# Altium schematic symbol library kmilo17pet-LT_PMIC_LT.SchLib: 2252 symbols (part 106 of 124)
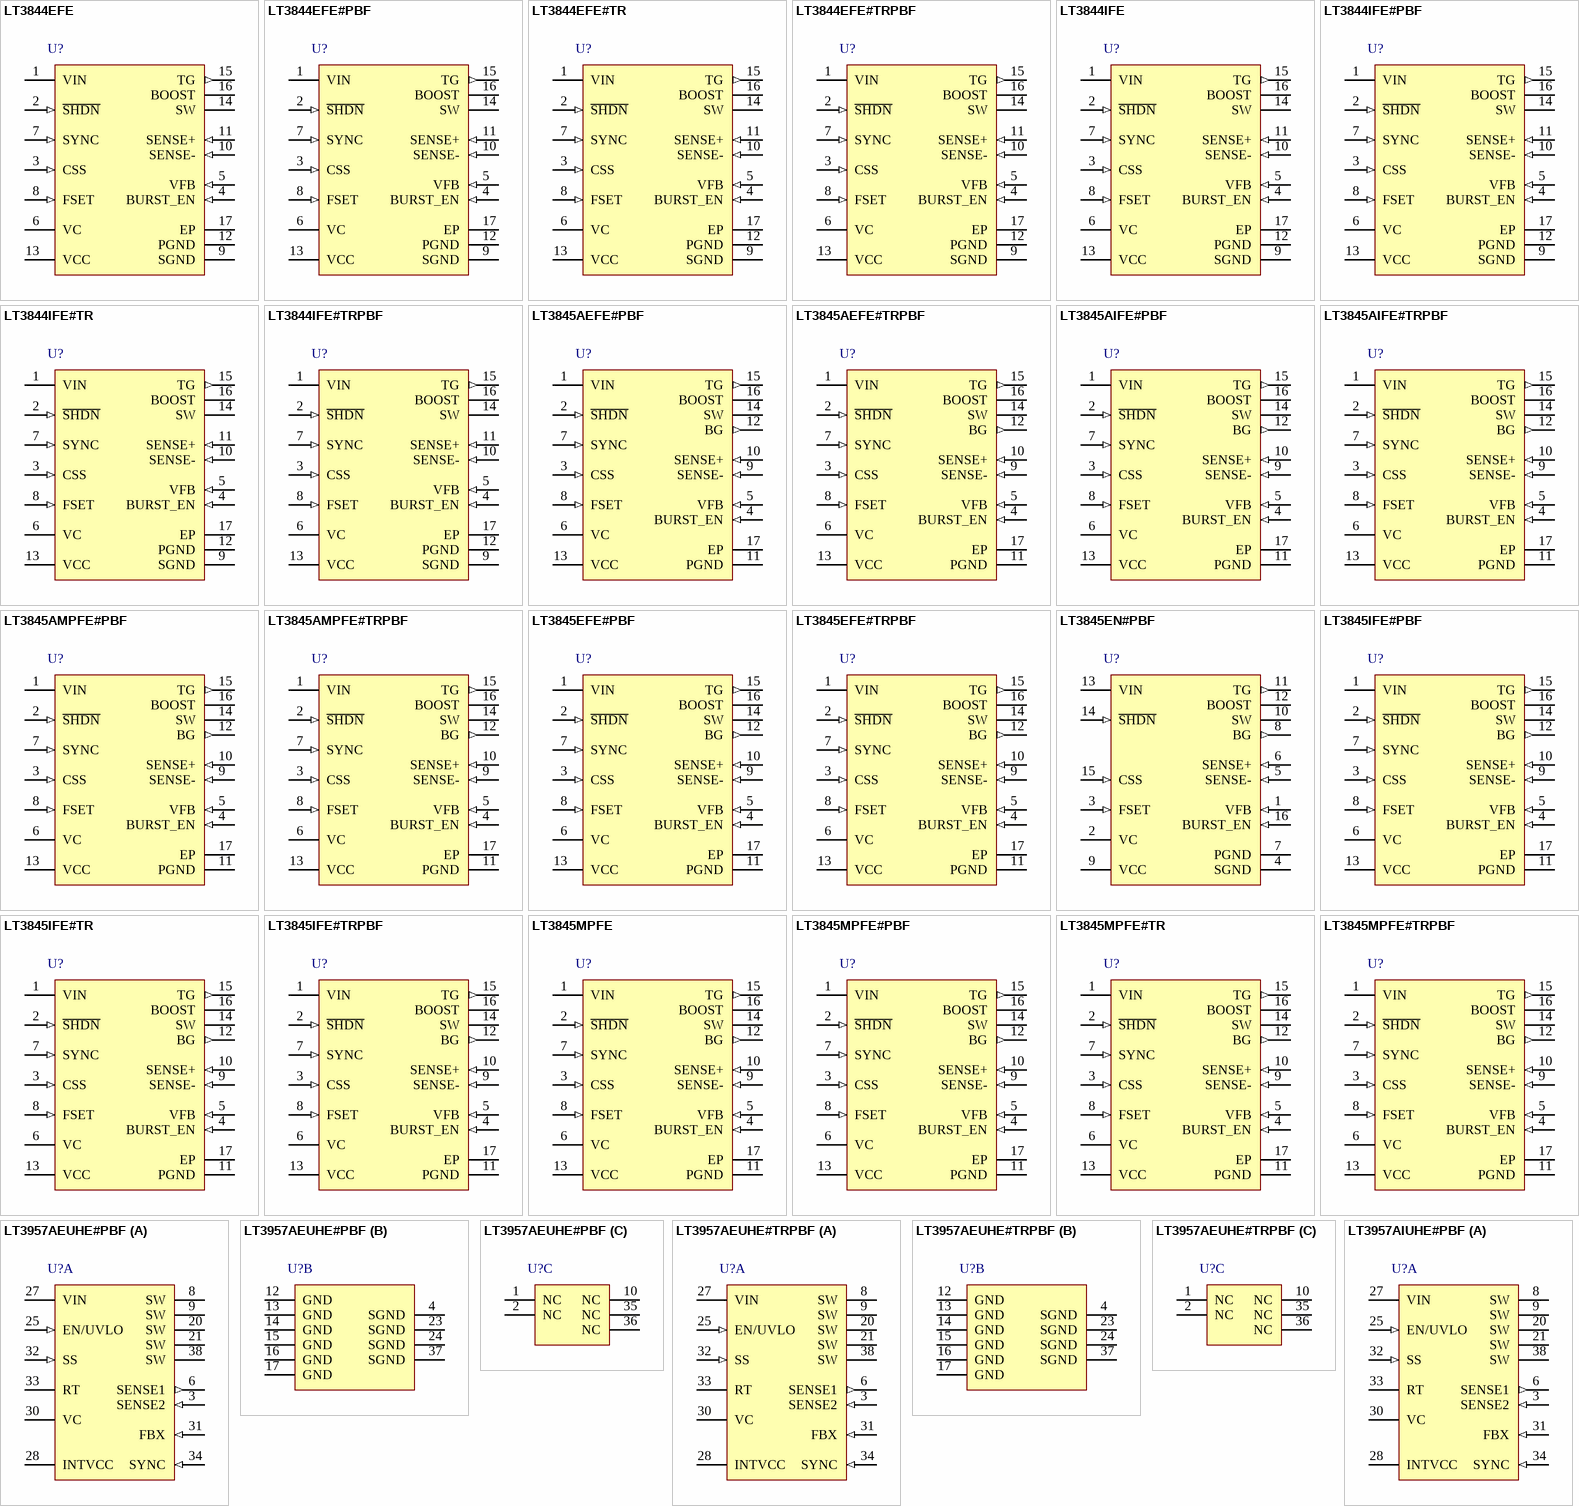
[diagram p176: symbols LT3844EFE to LT3957AIUHE#PBF]

## LT3845AMPFE#TRPBF
designator U?
High Voltage Synchronous Current Mode Step-Down Controller with Adjustable Operating Frequency, 16-pin SOP (FE-16-EPV-BC), -55 to 125 degC, Pb-Free, Tape and Reel; Manufacturer: Linear Technology; PartNumber: LT3845AMPFE#TRPBF; Number of Outputs: 1; PackageReference: FE-16; PackageDescription: 16-Pin Plastic TSSOP, Body 5 x 4.4 mm, Pitch 0.65 mm; Supplier 1: Digi-Key; Supplier Part Number 1: LT3845AMPFE#TRPBF-ND; RoHS: TRUE
footprint LT-FE-16-EPV-BC_N (SOP, 16-Leads, Body 5.1x4.5mm, Pitch 0.65mm, Thermal Pad 3.58x2.94mm, IPC Medium Density)
footprint LT-FE-16-EPV-BC_L (SOP, 16-Leads, Body 5.1x4.5mm, Pitch 0.65mm, Thermal Pad 3.58x2.94mm, IPC High Density)
footprint LT-FE-16-EPV-BC_M (SOP, 16-Leads, Body 5.1x4.5mm, Pitch 0.65mm, Thermal Pad 3.58x2.94mm, IPC Low Density)
pins: 1 VIN (power) "The VIN pin is the main supply pin and should be decoupled to SGND with a low ESR capacitor (at least 0.1uF) located close to the pin.", 2 ~{SHDN} (in) "The S\H\D\N\ pin has a precision IC enable threshold of 1.35V (rising) with 120mV of hysteresis. It is used to implement an undervoltage lockout (UVLO) circuit. See Application Information section for implementing a UVLO (See Datasheet)", 3 CSS (in) "The soft-start pin is used to program the supply softstart function. Use the following formula to calculate CSS for a given output voltage slew rate: CSS = 2uA(tSS/1.231V) The pin should be left unconnected when not using (See Datasheet)", 4 BURST_EN (in) "Burst Mode Operation Enable Pin. This pin also controls reverse-current inhibit mode of operation. When the pin voltage is below 0.5V, Burst Mode operation and reverse-current inhibit functions are enabled. When the pin (See Datasheet)", 5 VFB (in) "The output voltage feedback pin, VFB, is externally connected to the supply output voltage via a resistive divider. The VFB pin is internally connected to the inverting input of the error amplifier. In regulation, VFB is 1.(See Datasheet)", 6 VC "The VC pin is the output of the error amplifier whose voltage corresponds to the maximum (peak) switch current per oscillator cycle. The error amplifier is typically configured as an integrator by connecting an RC network (See Datasheet)", 7 SYNC (in) "The Sync pin provides an external clock input for synchronization of the internal oscillator. RSET is set such that the internal oscillator frequency is 10% to 25% below the external clock frequency. If unused the Sync pin (See Datasheet)", 8 FSET (in) "The FSET pin programs the oscillator frequency with an external resistor, RSET. The resistor is required even when supplying external sync clock signal. See the Applications Information section for resistor value selection (See Datasheet)", 9 SENSE- (in) "The SENSE- pin is the negative input for the current sense amplifier and is connected to the VOUT side of the sense resistor for step-down applications.", 10 SENSE+ (in) "The SENSE+ pin is the positive input for the current sense amplifier and is connected to the inductor side of the sense resistor for step-down applications.", 11 PGND (power) "The PGND pin is the high-current ground reference for internal low side switch driver and the VCC regulator circuit. Connect the pin directly to the negative terminal of the VCC decoupling capacitor. See the Application (See Datasheet)", 12 BG (out) "The BG pin is the gate drive for the bottom N-channel MOSFET. Since very fast high currents are driven from this pin, connect it to the gate of the power MOSFET with a short and wide, typically 0.02" width, PCB trace to (See Datasheet)", 13 VCC (power) "The VCC pin is the internal bias supply decoupling node. Use a low ESR, 1uF or greater ceramic capacitor to decouple this node to PGND. Most internal IC functions are powered from this bias supply. An external diode (See Datasheet)", 14 SW "Reference for VBOOST Supply and High Current Return for Bootstrapped Switch.", 15 TG (out) "The TG pin is the bootstrapped gate drive for the top N-Channel MOSFET. Since very fast high currents are driven from this pin, connect it to the gate of the power MOSFET with a short and wide, typically 0.02'' width, PC(See Datasheet)", 16 BOOST "The BOOST pin is the supply for the bootstrapped gate drive and is externally connected to a low ESR ceramic boost capacitor referenced to SW pin. The recommended value of the BOOST capacitor, CBOOST, is at least 50 times (See Datasheet)", 17 EP (power) "The exposed leadframe is internally connected to the SGND pin. Solder the exposed pad to the PCB ground for electrical contact and optimal thermal performance."

## LT3845EFE#PBF
designator U?
High Voltage Synchronous Current Mode Step-Down Controller with Adjustable Operating Frequency, 16-pin SOP (FE-16-EPV-BC), -40 to 125 degC, Pb-Free; Manufacturer: Linear Technology; PartNumber: LT3845EFE#PBF; Number of Outputs: 1; PackageReference: FE-16; PackageDescription: 16-Pin Plastic TSSOP, Body 5 x 4.4 mm, Pitch 0.65 mm; Supplier 1: Digi-Key; Supplier Part Number 1: LT3845EFE#PBF-ND; RoHS: TRUE
footprint LT-FE-16-EPV-BC_N (SOP, 16-Leads, Body 5.1x4.5mm, Pitch 0.65mm, Thermal Pad 3.58x2.94mm, IPC Medium Density)
footprint LT-FE-16-EPV-BC_L (SOP, 16-Leads, Body 5.1x4.5mm, Pitch 0.65mm, Thermal Pad 3.58x2.94mm, IPC High Density)
footprint LT-FE-16-EPV-BC_M (SOP, 16-Leads, Body 5.1x4.5mm, Pitch 0.65mm, Thermal Pad 3.58x2.94mm, IPC Low Density)
pins: 1 VIN (power) "The VIN pin is the main supply pin and should be decoupled to SGND with a low ESR capacitor (at least 0.1uF) located close to the pin.", 2 ~{SHDN} (in) "The S\H\D\N\ pin has a precision IC enable threshold of 1.35V (rising) with 120mV of hysteresis. It is used to implement an undervoltage lockout (UVLO) circuit. See Application Information section for implementing a UVLO (See Datasheet)", 3 CSS (in) "The soft-start pin is used to program the supply softstart function. Use the following formula to calculate CSS for a given output voltage slew rate: CSS = 2uA(tSS/1.231V) The pin should be left unconnected when not using (See Datasheet)", 4 BURST_EN (in) "Burst Mode Operation Enable Pin. This pin also controls reverse-current inhibit mode of operation. When the pin voltage is below 0.5V, Burst Mode operation and reverse-current inhibit functions are enabled. When the pin (See Datasheet)", 5 VFB (in) "The output voltage feedback pin, VFB, is externally connected to the supply output voltage via a resistive divider. The VFB pin is internally connected to the inverting input of the error amplifier. In regulation, VFB is 1.(See Datasheet)", 6 VC "The VC pin is the output of the error amplifier whose voltage corresponds to the maximum (peak) switch current per oscillator cycle. The error amplifier is typically configured as an integrator by connecting an RC network (See Datasheet)", 7 SYNC (in) "The Sync pin provides an external clock input for synchronization of the internal oscillator. RSET is set such that the internal oscillator frequency is 10% to 25% below the external clock frequency. If unused the Sync pin (See Datasheet)", 8 FSET (in) "The FSET pin programs the oscillator frequency with an external resistor, RSET. The resistor is required even when supplying external sync clock signal. See the Applications Information section for resistor value selection (See Datasheet)", 9 SENSE- (in) "The SENSE- pin is the negative input for the current sense amplifier and is connected to the VOUT side of the sense resistor for step-down applications.", 10 SENSE+ (in) "The SENSE+ pin is the positive input for the current sense amplifier and is connected to the inductor side of the sense resistor for step-down applications.", 11 PGND (power) "The PGND pin is the high-current ground reference for internal low side switch driver and the VCC regulator circuit. Connect the pin directly to the negative terminal of the VCC decoupling capacitor. See the Application (See Datasheet)", 12 BG (out) "The BG pin is the gate drive for the bottom N-channel MOSFET. Since very fast high currents are driven from this pin, connect it to the gate of the power MOSFET with a short and wide, typically 0.02" width, PCB trace to (See Datasheet)", 13 VCC (power) "The VCC pin is the internal bias supply decoupling node. Use a low ESR, 1uF or greater ceramic capacitor to decouple this node to PGND. Most internal IC functions are powered from this bias supply. An external diode (See Datasheet)", 14 SW "Reference for VBOOST Supply and High Current Return for Bootstrapped Switch.", 15 TG (out) "The TG pin is the bootstrapped gate drive for the top N-Channel MOSFET. Since very fast high currents are driven from this pin, connect it to the gate of the power MOSFET with a short and wide, typically 0.02'' width, PC(See Datasheet)", 16 BOOST "The BOOST pin is the supply for the bootstrapped gate drive and is externally connected to a low ESR ceramic boost capacitor referenced to SW pin. The recommended value of the BOOST capacitor, CBOOST, is at least 50 times (See Datasheet)", 17 EP (power) "The exposed leadframe is internally connected to the SGND pin. Solder the exposed pad to the PCB ground for electrical contact and optimal thermal performance."

## LT3845EFE#TRPBF
designator U?
High Voltage Synchronous Current Mode Step-Down Controller with Adjustable Operating Frequency, 16-pin SOP (FE-16-EPV-BC), -40 to 125 degC, Pb-Free, Tape and Reel; Manufacturer: Linear Technology; PartNumber: LT3845EFE#TRPBF; Number of Outputs: 1; PackageReference: FE-16; PackageDescription: 16-Pin Plastic TSSOP, Body 5 x 4.4 mm, Pitch 0.65 mm; Supplier 1: Digi-Key; Supplier Part Number 1: LT3845EFE#TRPBF-ND; RoHS: TRUE
footprint LT-FE-16-EPV-BC_N (SOP, 16-Leads, Body 5.1x4.5mm, Pitch 0.65mm, Thermal Pad 3.58x2.94mm, IPC Medium Density)
footprint LT-FE-16-EPV-BC_L (SOP, 16-Leads, Body 5.1x4.5mm, Pitch 0.65mm, Thermal Pad 3.58x2.94mm, IPC High Density)
footprint LT-FE-16-EPV-BC_M (SOP, 16-Leads, Body 5.1x4.5mm, Pitch 0.65mm, Thermal Pad 3.58x2.94mm, IPC Low Density)
pins: 1 VIN (power) "The VIN pin is the main supply pin and should be decoupled to SGND with a low ESR capacitor (at least 0.1uF) located close to the pin.", 2 ~{SHDN} (in) "The S\H\D\N\ pin has a precision IC enable threshold of 1.35V (rising) with 120mV of hysteresis. It is used to implement an undervoltage lockout (UVLO) circuit. See Application Information section for implementing a UVLO (See Datasheet)", 3 CSS (in) "The soft-start pin is used to program the supply softstart function. Use the following formula to calculate CSS for a given output voltage slew rate: CSS = 2uA(tSS/1.231V) The pin should be left unconnected when not using (See Datasheet)", 4 BURST_EN (in) "Burst Mode Operation Enable Pin. This pin also controls reverse-current inhibit mode of operation. When the pin voltage is below 0.5V, Burst Mode operation and reverse-current inhibit functions are enabled. When the pin (See Datasheet)", 5 VFB (in) "The output voltage feedback pin, VFB, is externally connected to the supply output voltage via a resistive divider. The VFB pin is internally connected to the inverting input of the error amplifier. In regulation, VFB is 1.(See Datasheet)", 6 VC "The VC pin is the output of the error amplifier whose voltage corresponds to the maximum (peak) switch current per oscillator cycle. The error amplifier is typically configured as an integrator by connecting an RC network (See Datasheet)", 7 SYNC (in) "The Sync pin provides an external clock input for synchronization of the internal oscillator. RSET is set such that the internal oscillator frequency is 10% to 25% below the external clock frequency. If unused the Sync pin (See Datasheet)", 8 FSET (in) "The FSET pin programs the oscillator frequency with an external resistor, RSET. The resistor is required even when supplying external sync clock signal. See the Applications Information section for resistor value selection (See Datasheet)", 9 SENSE- (in) "The SENSE- pin is the negative input for the current sense amplifier and is connected to the VOUT side of the sense resistor for step-down applications.", 10 SENSE+ (in) "The SENSE+ pin is the positive input for the current sense amplifier and is connected to the inductor side of the sense resistor for step-down applications.", 11 PGND (power) "The PGND pin is the high-current ground reference for internal low side switch driver and the VCC regulator circuit. Connect the pin directly to the negative terminal of the VCC decoupling capacitor. See the Application (See Datasheet)", 12 BG (out) "The BG pin is the gate drive for the bottom N-channel MOSFET. Since very fast high currents are driven from this pin, connect it to the gate of the power MOSFET with a short and wide, typically 0.02" width, PCB trace to (See Datasheet)", 13 VCC (power) "The VCC pin is the internal bias supply decoupling node. Use a low ESR, 1uF or greater ceramic capacitor to decouple this node to PGND. Most internal IC functions are powered from this bias supply. An external diode (See Datasheet)", 14 SW "Reference for VBOOST Supply and High Current Return for Bootstrapped Switch.", 15 TG (out) "The TG pin is the bootstrapped gate drive for the top N-Channel MOSFET. Since very fast high currents are driven from this pin, connect it to the gate of the power MOSFET with a short and wide, typically 0.02'' width, PC(See Datasheet)", 16 BOOST "The BOOST pin is the supply for the bootstrapped gate drive and is externally connected to a low ESR ceramic boost capacitor referenced to SW pin. The recommended value of the BOOST capacitor, CBOOST, is at least 50 times (See Datasheet)", 17 EP (power) "The exposed leadframe is internally connected to the SGND pin. Solder the exposed pad to the PCB ground for electrical contact and optimal thermal performance."

## LT3845EN#PBF
designator U?
High Voltage Synchronous Current Mode Step-Down Controller with Adjustable Operating Frequency, 16-pin DIP (N-16), -40 to 125 degC, Pb-Free; Manufacturer: Linear Technology; PartNumber: LT3845EN#PBF; Number of Outputs: 1; PackageReference: N-16; PackageDescription: 16-Pin PDIP, Body 19.56 x 6.48 mm, Pitch 2.54 mm; Supplier 1: Digi-Key; Supplier Part Number 1: LT3845EN#PBF-ND; RoHS: TRUE
footprint LT-N-16 (DIP, 16-Leads, Body 19.56x6.48mm, Pitch 2.54mm)
pins: 1 VFB (in) "The output voltage feedback pin, VFB, is externally connected to the supply output voltage via a resistive divider. The VFB pin is internally connected to the inverting input of the error amplifier. In regulation, VFB is 1.(See Datasheet)", 2 VC "The VC pin is the output of the error amplifier whose voltage corresponds to the maximum (peak) switch current per oscillator cycle. The error amplifier is typically configured as an integrator by connecting an RC network (See Datasheet)", 3 FSET (in) "The FSET pin programs the oscillator frequency with an external resistor, RSET. The resistor is required even when supplying external sync clock signal. See the Applications Information section for resistor value selection (See Datasheet)", 4 SGND (power) "The SGND pin is the low noise ground reference. It should be connected to the -VOUT side of the output capacitors. Careful layout of the PCB is necessary to keep high currents away from this SGND connection. See the (See Datasheet)", 5 SENSE- (in) "The SENSE- pin is the negative input for the current sense amplifier and is connected to the VOUT side of the sense resistor for step-down applications. The sensed inductor current limit is set to +/-100mV across the SENSE (See Datasheet)", 6 SENSE+ (in) "The SENSE+ pin is the positive input for the current sense amplifier and is connected to the inductor side of the sense resistor for step-down applications. The sensed inductor current limit is set to +/-100mV across the (See Datasheet)", 7 PGND (power) "The PGND pin is the high-current ground reference for internal low side switch driver and the VCC regulator circuit. Connect the pin directly to the negative terminal of the VCC decoupling capacitor. See the Application (See Datasheet)", 8 BG (out) "The BG pin is the gate drive for the bottom N-channel MOSFET. Since very fast high currents are driven from this pin, connect it to the gate of the power MOSFET with a short and wide, typically 0.02" width, PCB trace to (See Datasheet)", 9 VCC (power) "The VCC pin is the internal bias supply decoupling node. Use a low ESR, 1uF or greater ceramic capacitor to decouple this node to PGND. Most internal IC functions are powered from this bias supply. An external diode (See Datasheet)", 10 SW "Reference for VBOOST Supply and High Current Return for Bootstrapped Switch.", 11 TG (out) "The TG pin is the bootstrapped gate drive for the top N-Channel MOSFET. Since very fast high currents are driven from this pin, connect it to the gate of the power MOSFET with a short and wide, typically 0.02¡± width, PC(See Datasheet)", 12 BOOST "The BOOST pin is the supply for the bootstrapped gate drive and is externally connected to a low ESR ceramic boost capacitor referenced to SW pin. The recommended value of the BOOST capacitor, CBOOST, is at least 50 times (See Datasheet)", 13 VIN (power) "The VIN pin is the main supply pin and should be decoupled to SGND with a low ESR capacitor (at least 0.1uF) located close to the pin.", 14 ~{SHDN} (in) "The S\H\D\N\ pin has a precision IC enable threshold of 1.35V (rising) with 120mV of hysteresis. It is used to implement an undervoltage lockout (UVLO) circuit. See Application Information section for implementing a UVLO (See Datasheet)", 15 CSS (in) "The soft-start pin is used to program the supply softstart function. Use the following formula to calculate CSS for a given output voltage slew rate: CSS = 2uA(tSS/1.231V) The pin should be left unconnected when not using (See Datasheet)", 16 BURST_EN (in) "Burst Mode Operation Enable Pin. This pin also controls reverse current inhibit mode of operation. When the pin voltage is below 0.5V, Burst Mode operation and reverse-current inhibit functions are enabled. When the pin (See Datasheet)"

## LT3845IFE#PBF
designator U?
High Voltage Synchronous Current Mode Step-Down Controller with Adjustable Operating Frequency, 16-pin SOP (FE-16-EPV-BC), -40 to 125 degC, Pb-Free; Manufacturer: Linear Technology; PartNumber: LT3845IFE#PBF; Number of Outputs: 1; PackageReference: FE-16; PackageDescription: 16-Pin Plastic TSSOP, Body 5 x 4.4 mm, Pitch 0.65 mm; Supplier 1: Digi-Key; Supplier Part Number 1: LT3845IFE#PBF-ND; RoHS: TRUE
footprint LT-FE-16-EPV-BC_N (SOP, 16-Leads, Body 5.1x4.5mm, Pitch 0.65mm, Thermal Pad 3.58x2.94mm, IPC Medium Density)
footprint LT-FE-16-EPV-BC_L (SOP, 16-Leads, Body 5.1x4.5mm, Pitch 0.65mm, Thermal Pad 3.58x2.94mm, IPC High Density)
footprint LT-FE-16-EPV-BC_M (SOP, 16-Leads, Body 5.1x4.5mm, Pitch 0.65mm, Thermal Pad 3.58x2.94mm, IPC Low Density)
pins: 1 VIN (power) "The VIN pin is the main supply pin and should be decoupled to SGND with a low ESR capacitor (at least 0.1uF) located close to the pin.", 2 ~{SHDN} (in) "The S\H\D\N\ pin has a precision IC enable threshold of 1.35V (rising) with 120mV of hysteresis. It is used to implement an undervoltage lockout (UVLO) circuit. See Application Information section for implementing a UVLO (See Datasheet)", 3 CSS (in) "The soft-start pin is used to program the supply softstart function. Use the following formula to calculate CSS for a given output voltage slew rate: CSS = 2uA(tSS/1.231V) The pin should be left unconnected when not using (See Datasheet)", 4 BURST_EN (in) "Burst Mode Operation Enable Pin. This pin also controls reverse-current inhibit mode of operation. When the pin voltage is below 0.5V, Burst Mode operation and reverse-current inhibit functions are enabled. When the pin (See Datasheet)", 5 VFB (in) "The output voltage feedback pin, VFB, is externally connected to the supply output voltage via a resistive divider. The VFB pin is internally connected to the inverting input of the error amplifier. In regulation, VFB is 1.(See Datasheet)", 6 VC "The VC pin is the output of the error amplifier whose voltage corresponds to the maximum (peak) switch current per oscillator cycle. The error amplifier is typically configured as an integrator by connecting an RC network (See Datasheet)", 7 SYNC (in) "The Sync pin provides an external clock input for synchronization of the internal oscillator. RSET is set such that the internal oscillator frequency is 10% to 25% below the external clock frequency. If unused the Sync pin (See Datasheet)", 8 FSET (in) "The FSET pin programs the oscillator frequency with an external resistor, RSET. The resistor is required even when supplying external sync clock signal. See the Applications Information section for resistor value selection (See Datasheet)", 9 SENSE- (in) "The SENSE- pin is the negative input for the current sense amplifier and is connected to the VOUT side of the sense resistor for step-down applications.", 10 SENSE+ (in) "The SENSE+ pin is the positive input for the current sense amplifier and is connected to the inductor side of the sense resistor for step-down applications.", 11 PGND (power) "The PGND pin is the high-current ground reference for internal low side switch driver and the VCC regulator circuit. Connect the pin directly to the negative terminal of the VCC decoupling capacitor. See the Application (See Datasheet)", 12 BG (out) "The BG pin is the gate drive for the bottom N-channel MOSFET. Since very fast high currents are driven from this pin, connect it to the gate of the power MOSFET with a short and wide, typically 0.02" width, PCB trace to (See Datasheet)", 13 VCC (power) "The VCC pin is the internal bias supply decoupling node. Use a low ESR, 1uF or greater ceramic capacitor to decouple this node to PGND. Most internal IC functions are powered from this bias supply. An external diode (See Datasheet)", 14 SW "Reference for VBOOST Supply and High Current Return for Bootstrapped Switch.", 15 TG (out) "The TG pin is the bootstrapped gate drive for the top N-Channel MOSFET. Since very fast high currents are driven from this pin, connect it to the gate of the power MOSFET with a short and wide, typically 0.02'' width, PC(See Datasheet)", 16 BOOST "The BOOST pin is the supply for the bootstrapped gate drive and is externally connected to a low ESR ceramic boost capacitor referenced to SW pin. The recommended value of the BOOST capacitor, CBOOST, is at least 50 times (See Datasheet)", 17 EP (power) "The exposed leadframe is internally connected to the SGND pin. Solder the exposed pad to the PCB ground for electrical contact and optimal thermal performance."

## LT3845IFE#TR
designator U?
High Voltage Synchronous Current Mode Step-Down Controller with Adjustable Operating Frequency, 16-pin SOP (FE-16-EPV-BC), -40 to 125 degC, Tape and Reel; Manufacturer: Linear Technology; PartNumber: LT3845IFE#TR; Number of Outputs: 1; PackageReference: FE-16; PackageDescription: 16-Pin Plastic TSSOP, Body 5 x 4.4 mm, Pitch 0.65 mm; RoHS: FALSE
footprint LT-FE-16-EPV-BC_N (SOP, 16-Leads, Body 5.1x4.5mm, Pitch 0.65mm, Thermal Pad 3.58x2.94mm, IPC Medium Density)
footprint LT-FE-16-EPV-BC_L (SOP, 16-Leads, Body 5.1x4.5mm, Pitch 0.65mm, Thermal Pad 3.58x2.94mm, IPC High Density)
footprint LT-FE-16-EPV-BC_M (SOP, 16-Leads, Body 5.1x4.5mm, Pitch 0.65mm, Thermal Pad 3.58x2.94mm, IPC Low Density)
pins: 1 VIN (power) "The VIN pin is the main supply pin and should be decoupled to SGND with a low ESR capacitor (at least 0.1uF) located close to the pin.", 2 ~{SHDN} (in) "The S\H\D\N\ pin has a precision IC enable threshold of 1.35V (rising) with 120mV of hysteresis. It is used to implement an undervoltage lockout (UVLO) circuit. See Application Information section for implementing a UVLO (See Datasheet)", 3 CSS (in) "The soft-start pin is used to program the supply softstart function. Use the following formula to calculate CSS for a given output voltage slew rate: CSS = 2uA(tSS/1.231V) The pin should be left unconnected when not using (See Datasheet)", 4 BURST_EN (in) "Burst Mode Operation Enable Pin. This pin also controls reverse-current inhibit mode of operation. When the pin voltage is below 0.5V, Burst Mode operation and reverse-current inhibit functions are enabled. When the pin (See Datasheet)", 5 VFB (in) "The output voltage feedback pin, VFB, is externally connected to the supply output voltage via a resistive divider. The VFB pin is internally connected to the inverting input of the error amplifier. In regulation, VFB is 1.(See Datasheet)", 6 VC "The VC pin is the output of the error amplifier whose voltage corresponds to the maximum (peak) switch current per oscillator cycle. The error amplifier is typically configured as an integrator by connecting an RC network (See Datasheet)", 7 SYNC (in) "The Sync pin provides an external clock input for synchronization of the internal oscillator. RSET is set such that the internal oscillator frequency is 10% to 25% below the external clock frequency. If unused the Sync pin (See Datasheet)", 8 FSET (in) "The FSET pin programs the oscillator frequency with an external resistor, RSET. The resistor is required even when supplying external sync clock signal. See the Applications Information section for resistor value selection (See Datasheet)", 9 SENSE- (in) "The SENSE- pin is the negative input for the current sense amplifier and is connected to the VOUT side of the sense resistor for step-down applications.", 10 SENSE+ (in) "The SENSE+ pin is the positive input for the current sense amplifier and is connected to the inductor side of the sense resistor for step-down applications.", 11 PGND (power) "The PGND pin is the high-current ground reference for internal low side switch driver and the VCC regulator circuit. Connect the pin directly to the negative terminal of the VCC decoupling capacitor. See the Application (See Datasheet)", 12 BG (out) "The BG pin is the gate drive for the bottom N-channel MOSFET. Since very fast high currents are driven from this pin, connect it to the gate of the power MOSFET with a short and wide, typically 0.02" width, PCB trace to (See Datasheet)", 13 VCC (power) "The VCC pin is the internal bias supply decoupling node. Use a low ESR, 1uF or greater ceramic capacitor to decouple this node to PGND. Most internal IC functions are powered from this bias supply. An external diode (See Datasheet)", 14 SW "Reference for VBOOST Supply and High Current Return for Bootstrapped Switch.", 15 TG (out) "The TG pin is the bootstrapped gate drive for the top N-Channel MOSFET. Since very fast high currents are driven from this pin, connect it to the gate of the power MOSFET with a short and wide, typically 0.02'' width, PC(See Datasheet)", 16 BOOST "The BOOST pin is the supply for the bootstrapped gate drive and is externally connected to a low ESR ceramic boost capacitor referenced to SW pin. The recommended value of the BOOST capacitor, CBOOST, is at least 50 times (See Datasheet)", 17 EP (power) "The exposed leadframe is internally connected to the SGND pin. Solder the exposed pad to the PCB ground for electrical contact and optimal thermal performance."

## LT3845IFE#TRPBF
designator U?
High Voltage Synchronous Current Mode Step-Down Controller with Adjustable Operating Frequency, 16-pin SOP (FE-16-EPV-BC), -40 to 125 degC, Pb-Free, Tape and Reel; Manufacturer: Linear Technology; PartNumber: LT3845IFE#TRPBF; Number of Outputs: 1; PackageReference: FE-16; PackageDescription: 16-Pin Plastic TSSOP, Body 5 x 4.4 mm, Pitch 0.65 mm; Supplier 1: Digi-Key; Supplier Part Number 1: LT3845IFE#TRPBF-ND; RoHS: TRUE
footprint LT-FE-16-EPV-BC_N (SOP, 16-Leads, Body 5.1x4.5mm, Pitch 0.65mm, Thermal Pad 3.58x2.94mm, IPC Medium Density)
footprint LT-FE-16-EPV-BC_L (SOP, 16-Leads, Body 5.1x4.5mm, Pitch 0.65mm, Thermal Pad 3.58x2.94mm, IPC High Density)
footprint LT-FE-16-EPV-BC_M (SOP, 16-Leads, Body 5.1x4.5mm, Pitch 0.65mm, Thermal Pad 3.58x2.94mm, IPC Low Density)
pins: 1 VIN (power) "The VIN pin is the main supply pin and should be decoupled to SGND with a low ESR capacitor (at least 0.1uF) located close to the pin.", 2 ~{SHDN} (in) "The S\H\D\N\ pin has a precision IC enable threshold of 1.35V (rising) with 120mV of hysteresis. It is used to implement an undervoltage lockout (UVLO) circuit. See Application Information section for implementing a UVLO (See Datasheet)", 3 CSS (in) "The soft-start pin is used to program the supply softstart function. Use the following formula to calculate CSS for a given output voltage slew rate: CSS = 2uA(tSS/1.231V) The pin should be left unconnected when not using (See Datasheet)", 4 BURST_EN (in) "Burst Mode Operation Enable Pin. This pin also controls reverse-current inhibit mode of operation. When the pin voltage is below 0.5V, Burst Mode operation and reverse-current inhibit functions are enabled. When the pin (See Datasheet)", 5 VFB (in) "The output voltage feedback pin, VFB, is externally connected to the supply output voltage via a resistive divider. The VFB pin is internally connected to the inverting input of the error amplifier. In regulation, VFB is 1.(See Datasheet)", 6 VC "The VC pin is the output of the error amplifier whose voltage corresponds to the maximum (peak) switch current per oscillator cycle. The error amplifier is typically configured as an integrator by connecting an RC network (See Datasheet)", 7 SYNC (in) "The Sync pin provides an external clock input for synchronization of the internal oscillator. RSET is set such that the internal oscillator frequency is 10% to 25% below the external clock frequency. If unused the Sync pin (See Datasheet)", 8 FSET (in) "The FSET pin programs the oscillator frequency with an external resistor, RSET. The resistor is required even when supplying external sync clock signal. See the Applications Information section for resistor value selection (See Datasheet)", 9 SENSE- (in) "The SENSE- pin is the negative input for the current sense amplifier and is connected to the VOUT side of the sense resistor for step-down applications.", 10 SENSE+ (in) "The SENSE+ pin is the positive input for the current sense amplifier and is connected to the inductor side of the sense resistor for step-down applications.", 11 PGND (power) "The PGND pin is the high-current ground reference for internal low side switch driver and the VCC regulator circuit. Connect the pin directly to the negative terminal of the VCC decoupling capacitor. See the Application (See Datasheet)", 12 BG (out) "The BG pin is the gate drive for the bottom N-channel MOSFET. Since very fast high currents are driven from this pin, connect it to the gate of the power MOSFET with a short and wide, typically 0.02" width, PCB trace to (See Datasheet)", 13 VCC (power) "The VCC pin is the internal bias supply decoupling node. Use a low ESR, 1uF or greater ceramic capacitor to decouple this node to PGND. Most internal IC functions are powered from this bias supply. An external diode (See Datasheet)", 14 SW "Reference for VBOOST Supply and High Current Return for Bootstrapped Switch.", 15 TG (out) "The TG pin is the bootstrapped gate drive for the top N-Channel MOSFET. Since very fast high currents are driven from this pin, connect it to the gate of the power MOSFET with a short and wide, typically 0.02'' width, PC(See Datasheet)", 16 BOOST "The BOOST pin is the supply for the bootstrapped gate drive and is externally connected to a low ESR ceramic boost capacitor referenced to SW pin. The recommended value of the BOOST capacitor, CBOOST, is at least 50 times (See Datasheet)", 17 EP (power) "The exposed leadframe is internally connected to the SGND pin. Solder the exposed pad to the PCB ground for electrical contact and optimal thermal performance."

## LT3845MPFE
designator U?
High Voltage Synchronous Current Mode Step-Down Controller with Adjustable Operating Frequency, 16-pin SOP (FE-16-EPV-BC), -55 to 125 degC; Manufacturer: Linear Technology; PartNumber: LT3845MPFE; Number of Outputs: 1; PackageReference: FE-16; PackageDescription: 16-Pin Plastic TSSOP, Body 5 x 4.4 mm, Pitch 0.65 mm; RoHS: FALSE
footprint LT-FE-16-EPV-BC_N (SOP, 16-Leads, Body 5.1x4.5mm, Pitch 0.65mm, Thermal Pad 3.58x2.94mm, IPC Medium Density)
footprint LT-FE-16-EPV-BC_L (SOP, 16-Leads, Body 5.1x4.5mm, Pitch 0.65mm, Thermal Pad 3.58x2.94mm, IPC High Density)
footprint LT-FE-16-EPV-BC_M (SOP, 16-Leads, Body 5.1x4.5mm, Pitch 0.65mm, Thermal Pad 3.58x2.94mm, IPC Low Density)
pins: 1 VIN (power) "The VIN pin is the main supply pin and should be decoupled to SGND with a low ESR capacitor (at least 0.1uF) located close to the pin.", 2 ~{SHDN} (in) "The S\H\D\N\ pin has a precision IC enable threshold of 1.35V (rising) with 120mV of hysteresis. It is used to implement an undervoltage lockout (UVLO) circuit. See Application Information section for implementing a UVLO (See Datasheet)", 3 CSS (in) "The soft-start pin is used to program the supply softstart function. Use the following formula to calculate CSS for a given output voltage slew rate: CSS = 2uA(tSS/1.231V) The pin should be left unconnected when not using (See Datasheet)", 4 BURST_EN (in) "Burst Mode Operation Enable Pin. This pin also controls reverse-current inhibit mode of operation. When the pin voltage is below 0.5V, Burst Mode operation and reverse-current inhibit functions are enabled. When the pin (See Datasheet)", 5 VFB (in) "The output voltage feedback pin, VFB, is externally connected to the supply output voltage via a resistive divider. The VFB pin is internally connected to the inverting input of the error amplifier. In regulation, VFB is 1.(See Datasheet)", 6 VC "The VC pin is the output of the error amplifier whose voltage corresponds to the maximum (peak) switch current per oscillator cycle. The error amplifier is typically configured as an integrator by connecting an RC network (See Datasheet)", 7 SYNC (in) "The Sync pin provides an external clock input for synchronization of the internal oscillator. RSET is set such that the internal oscillator frequency is 10% to 25% below the external clock frequency. If unused the Sync pin (See Datasheet)", 8 FSET (in) "The FSET pin programs the oscillator frequency with an external resistor, RSET. The resistor is required even when supplying external sync clock signal. See the Applications Information section for resistor value selection (See Datasheet)", 9 SENSE- (in) "The SENSE- pin is the negative input for the current sense amplifier and is connected to the VOUT side of the sense resistor for step-down applications.", 10 SENSE+ (in) "The SENSE+ pin is the positive input for the current sense amplifier and is connected to the inductor side of the sense resistor for step-down applications.", 11 PGND (power) "The PGND pin is the high-current ground reference for internal low side switch driver and the VCC regulator circuit. Connect the pin directly to the negative terminal of the VCC decoupling capacitor. See the Application (See Datasheet)", 12 BG (out) "The BG pin is the gate drive for the bottom N-channel MOSFET. Since very fast high currents are driven from this pin, connect it to the gate of the power MOSFET with a short and wide, typically 0.02" width, PCB trace to (See Datasheet)", 13 VCC (power) "The VCC pin is the internal bias supply decoupling node. Use a low ESR, 1uF or greater ceramic capacitor to decouple this node to PGND. Most internal IC functions are powered from this bias supply. An external diode (See Datasheet)", 14 SW "Reference for VBOOST Supply and High Current Return for Bootstrapped Switch.", 15 TG (out) "The TG pin is the bootstrapped gate drive for the top N-Channel MOSFET. Since very fast high currents are driven from this pin, connect it to the gate of the power MOSFET with a short and wide, typically 0.02'' width, PC(See Datasheet)", 16 BOOST "The BOOST pin is the supply for the bootstrapped gate drive and is externally connected to a low ESR ceramic boost capacitor referenced to SW pin. The recommended value of the BOOST capacitor, CBOOST, is at least 50 times (See Datasheet)", 17 EP (power) "The exposed leadframe is internally connected to the SGND pin. Solder the exposed pad to the PCB ground for electrical contact and optimal thermal performance."

## LT3845MPFE#PBF
designator U?
High Voltage Synchronous Current Mode Step-Down Controller with Adjustable Operating Frequency, 16-pin SOP (FE-16-EPV-BC), -55 to 125 degC, Pb-Free; Manufacturer: Linear Technology; PartNumber: LT3845MPFE#PBF; Number of Outputs: 1; PackageReference: FE-16; PackageDescription: 16-Pin Plastic TSSOP, Body 5 x 4.4 mm, Pitch 0.65 mm; Supplier 1: Digi-Key; Supplier Part Number 1: LT3845MPFE#PBF-ND; RoHS: TRUE
footprint LT-FE-16-EPV-BC_N (SOP, 16-Leads, Body 5.1x4.5mm, Pitch 0.65mm, Thermal Pad 3.58x2.94mm, IPC Medium Density)
footprint LT-FE-16-EPV-BC_L (SOP, 16-Leads, Body 5.1x4.5mm, Pitch 0.65mm, Thermal Pad 3.58x2.94mm, IPC High Density)
footprint LT-FE-16-EPV-BC_M (SOP, 16-Leads, Body 5.1x4.5mm, Pitch 0.65mm, Thermal Pad 3.58x2.94mm, IPC Low Density)
pins: 1 VIN (power) "The VIN pin is the main supply pin and should be decoupled to SGND with a low ESR capacitor (at least 0.1uF) located close to the pin.", 2 ~{SHDN} (in) "The S\H\D\N\ pin has a precision IC enable threshold of 1.35V (rising) with 120mV of hysteresis. It is used to implement an undervoltage lockout (UVLO) circuit. See Application Information section for implementing a UVLO (See Datasheet)", 3 CSS (in) "The soft-start pin is used to program the supply softstart function. Use the following formula to calculate CSS for a given output voltage slew rate: CSS = 2uA(tSS/1.231V) The pin should be left unconnected when not using (See Datasheet)", 4 BURST_EN (in) "Burst Mode Operation Enable Pin. This pin also controls reverse-current inhibit mode of operation. When the pin voltage is below 0.5V, Burst Mode operation and reverse-current inhibit functions are enabled. When the pin (See Datasheet)", 5 VFB (in) "The output voltage feedback pin, VFB, is externally connected to the supply output voltage via a resistive divider. The VFB pin is internally connected to the inverting input of the error amplifier. In regulation, VFB is 1.(See Datasheet)", 6 VC "The VC pin is the output of the error amplifier whose voltage corresponds to the maximum (peak) switch current per oscillator cycle. The error amplifier is typically configured as an integrator by connecting an RC network (See Datasheet)", 7 SYNC (in) "The Sync pin provides an external clock input for synchronization of the internal oscillator. RSET is set such that the internal oscillator frequency is 10% to 25% below the external clock frequency. If unused the Sync pin (See Datasheet)", 8 FSET (in) "The FSET pin programs the oscillator frequency with an external resistor, RSET. The resistor is required even when supplying external sync clock signal. See the Applications Information section for resistor value selection (See Datasheet)", 9 SENSE- (in) "The SENSE- pin is the negative input for the current sense amplifier and is connected to the VOUT side of the sense resistor for step-down applications.", 10 SENSE+ (in) "The SENSE+ pin is the positive input for the current sense amplifier and is connected to the inductor side of the sense resistor for step-down applications.", 11 PGND (power) "The PGND pin is the high-current ground reference for internal low side switch driver and the VCC regulator circuit. Connect the pin directly to the negative terminal of the VCC decoupling capacitor. See the Application (See Datasheet)", 12 BG (out) "The BG pin is the gate drive for the bottom N-channel MOSFET. Since very fast high currents are driven from this pin, connect it to the gate of the power MOSFET with a short and wide, typically 0.02" width, PCB trace to (See Datasheet)", 13 VCC (power) "The VCC pin is the internal bias supply decoupling node. Use a low ESR, 1uF or greater ceramic capacitor to decouple this node to PGND. Most internal IC functions are powered from this bias supply. An external diode (See Datasheet)", 14 SW "Reference for VBOOST Supply and High Current Return for Bootstrapped Switch.", 15 TG (out) "The TG pin is the bootstrapped gate drive for the top N-Channel MOSFET. Since very fast high currents are driven from this pin, connect it to the gate of the power MOSFET with a short and wide, typically 0.02'' width, PC(See Datasheet)", 16 BOOST "The BOOST pin is the supply for the bootstrapped gate drive and is externally connected to a low ESR ceramic boost capacitor referenced to SW pin. The recommended value of the BOOST capacitor, CBOOST, is at least 50 times (See Datasheet)", 17 EP (power) "The exposed leadframe is internally connected to the SGND pin. Solder the exposed pad to the PCB ground for electrical contact and optimal thermal performance."

## LT3845MPFE#TR
designator U?
High Voltage Synchronous Current Mode Step-Down Controller with Adjustable Operating Frequency, 16-pin SOP (FE-16-EPV-BC), -55 to 125 degC, Pb-Free, Tape and Reel; Manufacturer: Linear Technology; PartNumber: LT3845MPFE#TR; Number of Outputs: 1; PackageReference: FE-16; PackageDescription: 16-Pin Plastic TSSOP, Body 5 x 4.4 mm, Pitch 0.65 mm; Supplier 1: Digi-Key; Supplier Part Number 1: LT3845MPFE#TR-ND; RoHS: TRUE
footprint LT-FE-16-EPV-BC_N (SOP, 16-Leads, Body 5.1x4.5mm, Pitch 0.65mm, Thermal Pad 3.58x2.94mm, IPC Medium Density)
footprint LT-FE-16-EPV-BC_L (SOP, 16-Leads, Body 5.1x4.5mm, Pitch 0.65mm, Thermal Pad 3.58x2.94mm, IPC High Density)
footprint LT-FE-16-EPV-BC_M (SOP, 16-Leads, Body 5.1x4.5mm, Pitch 0.65mm, Thermal Pad 3.58x2.94mm, IPC Low Density)
pins: 1 VIN (power) "The VIN pin is the main supply pin and should be decoupled to SGND with a low ESR capacitor (at least 0.1uF) located close to the pin.", 2 ~{SHDN} (in) "The S\H\D\N\ pin has a precision IC enable threshold of 1.35V (rising) with 120mV of hysteresis. It is used to implement an undervoltage lockout (UVLO) circuit. See Application Information section for implementing a UVLO (See Datasheet)", 3 CSS (in) "The soft-start pin is used to program the supply softstart function. Use the following formula to calculate CSS for a given output voltage slew rate: CSS = 2uA(tSS/1.231V) The pin should be left unconnected when not using (See Datasheet)", 4 BURST_EN (in) "Burst Mode Operation Enable Pin. This pin also controls reverse-current inhibit mode of operation. When the pin voltage is below 0.5V, Burst Mode operation and reverse-current inhibit functions are enabled. When the pin (See Datasheet)", 5 VFB (in) "The output voltage feedback pin, VFB, is externally connected to the supply output voltage via a resistive divider. The VFB pin is internally connected to the inverting input of the error amplifier. In regulation, VFB is 1.(See Datasheet)", 6 VC "The VC pin is the output of the error amplifier whose voltage corresponds to the maximum (peak) switch current per oscillator cycle. The error amplifier is typically configured as an integrator by connecting an RC network (See Datasheet)", 7 SYNC (in) "The Sync pin provides an external clock input for synchronization of the internal oscillator. RSET is set such that the internal oscillator frequency is 10% to 25% below the external clock frequency. If unused the Sync pin (See Datasheet)", 8 FSET (in) "The FSET pin programs the oscillator frequency with an external resistor, RSET. The resistor is required even when supplying external sync clock signal. See the Applications Information section for resistor value selection (See Datasheet)", 9 SENSE- (in) "The SENSE- pin is the negative input for the current sense amplifier and is connected to the VOUT side of the sense resistor for step-down applications.", 10 SENSE+ (in) "The SENSE+ pin is the positive input for the current sense amplifier and is connected to the inductor side of the sense resistor for step-down applications.", 11 PGND (power) "The PGND pin is the high-current ground reference for internal low side switch driver and the VCC regulator circuit. Connect the pin directly to the negative terminal of the VCC decoupling capacitor. See the Application (See Datasheet)", 12 BG (out) "The BG pin is the gate drive for the bottom N-channel MOSFET. Since very fast high currents are driven from this pin, connect it to the gate of the power MOSFET with a short and wide, typically 0.02" width, PCB trace to (See Datasheet)", 13 VCC (power) "The VCC pin is the internal bias supply decoupling node. Use a low ESR, 1uF or greater ceramic capacitor to decouple this node to PGND. Most internal IC functions are powered from this bias supply. An external diode (See Datasheet)", 14 SW "Reference for VBOOST Supply and High Current Return for Bootstrapped Switch.", 15 TG (out) "The TG pin is the bootstrapped gate drive for the top N-Channel MOSFET. Since very fast high currents are driven from this pin, connect it to the gate of the power MOSFET with a short and wide, typically 0.02'' width, PC(See Datasheet)", 16 BOOST "The BOOST pin is the supply for the bootstrapped gate drive and is externally connected to a low ESR ceramic boost capacitor referenced to SW pin. The recommended value of the BOOST capacitor, CBOOST, is at least 50 times (See Datasheet)", 17 EP (power) "The exposed leadframe is internally connected to the SGND pin. Solder the exposed pad to the PCB ground for electrical contact and optimal thermal performance."